# Altium schematic symbol library Buttons.SchLib: 1 symbol
Pins are listed as number, name and electrical type; pins without a type are passive.

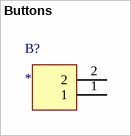
[diagram p0: symbol Buttons]

## Buttons
designator B?
footprint Buttons
pins: 1, 2